# EAGLE library part IC-MP1584 (library - Jins eagle lbr)
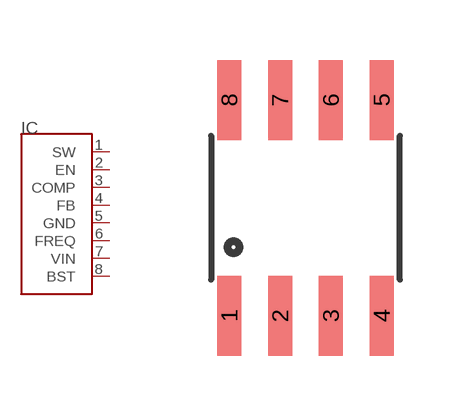
[diagram p18: symbol with the pads of SOP-08; footprint SOP-08]

Designator prefix IC

## IC-MP1584  [SOP-08]
1  SW
2  EN
3  COMP
4  FB
5  GND
6  FREQ
7  VIN
8  BST

## Footprint SOP-08 (pad centres in mm)
smd 0.6 x 2: 1 -1.905,-2.7; 2 -0.635,-2.7; 3 0.635,-2.7; 4 1.905,-2.7; 5 1.905,2.7; 6 0.635,2.7; 7 -0.635,2.7; 8 -1.905,2.7